# EAGLE library part 79109-28 (library untitled)
RECEPTACAL
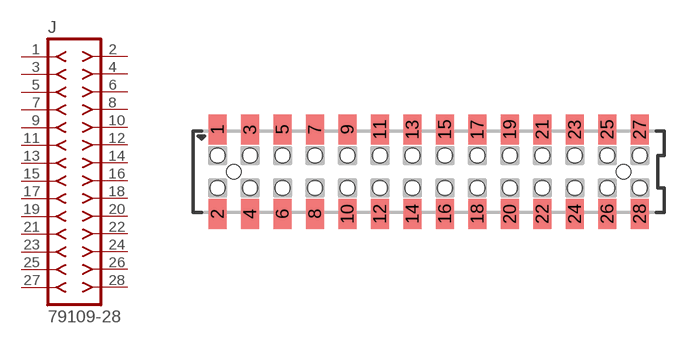
[diagram p171: symbol with the pads of 79109-28; footprint 79109-28]

Designator prefix J

## 79109-28  [79109-28]
1  1  pas
2  2  pas
3  3  pas
4  4  pas
5  5  pas
6  6  pas
7  7  pas
8  8  pas
9  9  pas
10  10  pas
11  11  pas
12  12  pas
13  13  pas
14  14  pas
15  15  pas
16  16  pas
17  17  pas
18  18  pas
19  19  pas
20  20  pas
21  21  pas
22  22  pas
23  23  pas
24  24  pas
25  25  pas
26  26  pas
27  27  pas
28  28  pas

## Footprint 79109-28 (pad centres in mm)
RECEPTACAL SMD Dual Row, Vertical, Pass-Thru
smd 1.12 x 1.83: 1 -13,2.6; 2 -13,-2.6; 3 -11,2.6; 4 -11,-2.6; 5 -9,2.6; 6 -9,-2.6; 7 -7,2.6; 8 -7,-2.6; 9 -5,2.6; 10 -5,-2.6; 11 -3,2.6; 12 -3,-2.6; 13 -1,2.6; 14 -1,-2.6; 15 1,2.6; 16 1,-2.6; 17 3,2.6; 18 3,-2.6; 19 5,2.6; 20 5,-2.6; 21 7,2.6; 22 7,-2.6; 23 9,2.6; 24 9,-2.6; 25 11,2.6; 26 11,-2.6; 27 13,2.6; 28 13,-2.6
hole 0.914 at -12,0
hole 0.914 at -13,1
hole 0.914 at -13,-1
hole 0.914 at -11,-1
hole 0.914 at -11,1
hole 0.914 at -9,-1
hole 0.914 at -9,1
hole 0.914 at 12,0
hole 0.914 at -7,1
hole 0.914 at -7,-1
hole 0.914 at -5,1
hole 0.914 at -5,-1
hole 0.914 at -3,1
hole 0.914 at -3,-1
hole 0.914 at -1,1
hole 0.914 at -1,-1
hole 0.914 at 1,-1
hole 0.914 at 1,1
hole 0.914 at 3,1
hole 0.914 at 3,-1
hole 0.914 at 5,1
hole 0.914 at 5,-1
hole 0.914 at 7,1
hole 0.914 at 7,-1
hole 0.914 at 9,-1
hole 0.914 at 9,1
hole 0.914 at 11,1
hole 0.914 at 13,1
hole 0.914 at 11,-1
hole 0.914 at 13,-1